# EAGLE library part NE555 (library NE555)
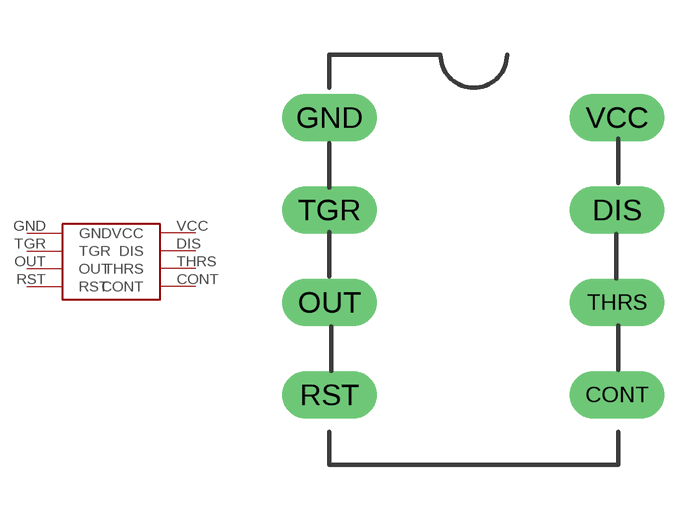
[diagram p0: symbol with the pads of NE555; footprint NE555]

Designator prefix -

## NE555  [NE555]
CONT  CONT
DIS  DIS
GND  GND
OUT  OUT
RST  RST
TGR  TGR
THRS  THRS
VCC  VCC

## Footprint NE555 (pad centres in mm)
drill 0.8 long: CONT 4.089,-2.54; DIS 4.089,2.54; GND -3.81,5.08; OUT -3.81,0; RST -3.81,-2.54; TGR -3.81,2.54; THRS 4.089,0; VCC 4.089,5.08